# EAGLE library part LIN (library Diplomarbeit)
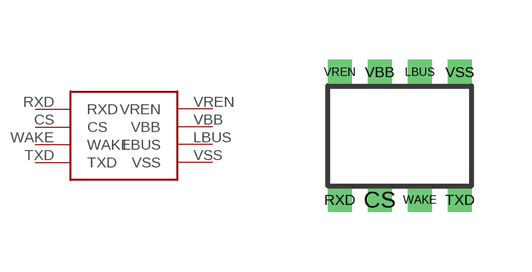
[diagram p2: symbol with the pads of LIN; footprint LIN]

Designator prefix -

## LIN  [LIN]
CS  CS
LBUS  LBUS
RXD  RXD
TXD  TXD
VBB  VBB
VREN  VREN
VSS  VSS
WAKE  WAKE

## Footprint LIN (pad centres in mm)
drill 0.1 pad 0.406 square: CS -0.5,-1.6; LBUS 0.5,1.6; RXD -1.5,-1.6; TXD 1.5,-1.6; VBB -0.5,1.6; VREN -1.5,1.6; VSS 1.5,1.6; WAKE 0.5,-1.6